# EAGLE library part ULN2803A (library QuantumOptics)
Octal Driver, TTL in, OC Darlington out, with clamping diodes. 50V, 500mA per channel (unknown total max).
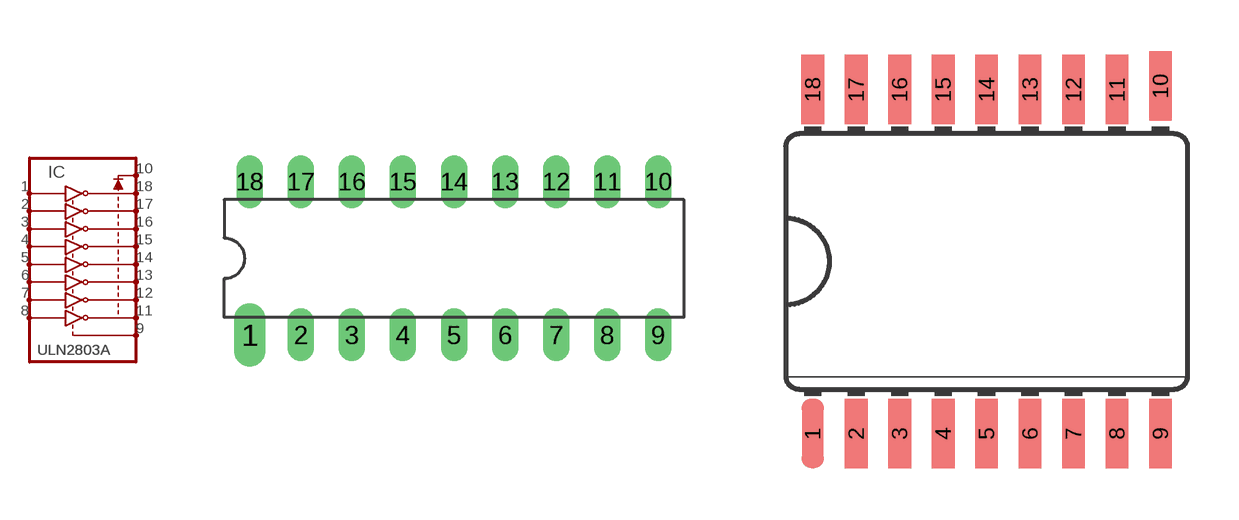
[diagram p12: symbol with the pads of DIL18; footprints DIL18, SOIC-18W]

Designator prefix IC

## ULN2803A  [DIL18]
1  IN1  in
2  IN2  in
3  IN3  in
4  IN4  in
5  IN5  in
6  IN6  in
7  IN7  in
8  IN8  in
9  COM
10  DIODE  pas
11  OUT8  oc
12  OUT7  oc
13  OUT6  oc
14  OUT5  oc
15  OUT4  oc
16  OUT3  oc
17  OUT2  oc
18  OUT1  oc

## ULN2803ASOIC18W  [SOIC-18W]
Pads as for DIL18

## Footprint DIL18 (pad centres in mm)
Dual In Line Package
drill 0.813 pad 1.575 long: 1 -10.16,-3.81
drill 0.813 long: 2 -7.62,-3.81; 3 -5.08,-3.81; 4 -2.54,-3.81; 5 0,-3.81; 6 2.54,-3.81; 7 5.08,-3.81; 8 7.62,-3.81; 9 10.16,-3.81; 10 10.16,3.81; 11 7.62,3.81; 12 5.08,3.81; 13 2.54,3.81; 14 0,3.81; 15 -2.54,3.81; 16 -5.08,3.81; 17 -7.62,3.81; 18 -10.16,3.81

## Footprint SOIC-18W (pad centres in mm)
SOIC-18W (Wide Small Outline) package 300 mil pin spacing, 50mil pitch. e.g. http://focus.ti.com/lit/ds/symlink/uln2803a.pdf
smd 0.66 x 2.032: 1 -5.715,-5.029; 2 -4.445,-5.029; 3 -3.175,-5.029; 4 -1.905,-5.029; 5 -0.635,-5.029; 6 0.635,-5.029; 7 1.905,-5.029; 8 3.175,-5.029; 9 4.445,-5.029; 10 4.445,5.131; 11 3.175,5.029; 12 1.905,5.029; 13 0.635,5.029; 14 -0.635,5.029; 15 -1.905,5.029; 16 -3.175,5.029; 17 -4.445,5.029; 18 -5.715,5.029